# Altium footprint library PCB - DIODES - SMC DO-214AB.PCBLIB: 1 footprints
Each footprint in its own frame and in the unit in brackets; x right, y up, seen from the top. Pads: shape width x height; smd on the part's side, far side on the other; paste and mask are expansions set on the pad; w line width, h text height; cw(c..) or ccw(c..) is an arc to the next point about the centre after c.
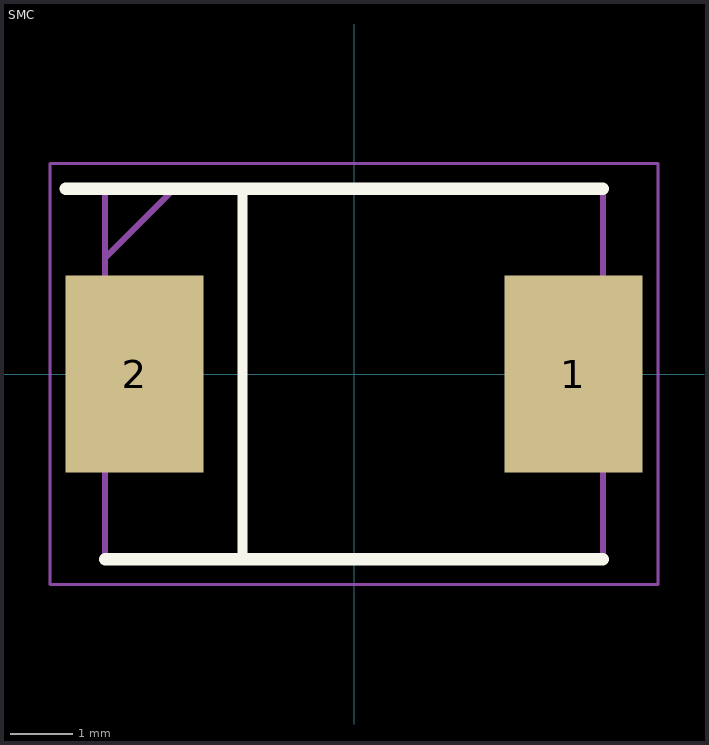
[diagram p0: the footprint, top view; thin cyan lines are the x and y axes]

## SMC [mm]
pads (2):
  rect 2.2x3.15 smd: 1(3.5,0) 2(-3.5,0)
Top Overlay:
  lines w0.153: -1.778,-2.921 -1.778,2.921
  lines w0.2: -4.6,2.952 3.97,2.952 ; -3.97,-2.952 3.97,-2.952
Top Value (Mech13):
  lines w0.1: -3.97,1.852 -2.87,2.952 ; -3.97,-2.952 3.97,-2.952 3.97,2.952 -3.97,2.952 -3.97,-2.952
Mechanical 15:
  lines w0.05: -4.85,-3.36 4.85,-3.36 4.85,3.36 -4.85,3.36 -4.85,-3.36
3D body "S5M-E3_57T.stp": height 2.67, standoff 0, extent -3.556,-3.112 3.556,3.112